# EAGLE library part ADN4663 (library analog-devices)
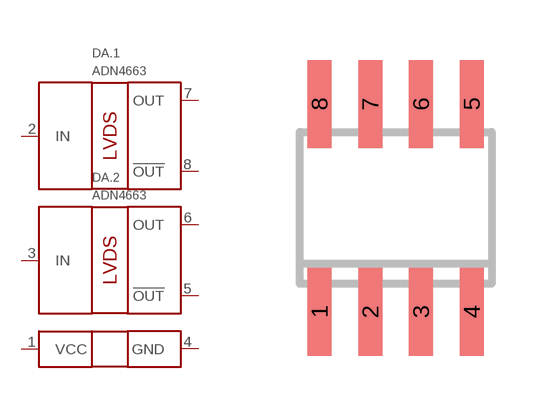
[diagram p3: symbol with the pads of SO08; footprint SO08]

Designator prefix DA; gates .1=ADN4663 .2=ADN4663 G$3=ADN466X_POWER

## ADN4663  [SO08]
1  G$3:VCC  pwr
2  .1:IN  in
3  .2:IN  in
4  G$3:GND  pwr
5  .2:!OUT  out
6  .2:OUT  out
7  .1:OUT  out
8  .1:!OUT  out

## Footprint SO08 (pad centres in mm)
SMALL OUTLINE INTEGRATED CIRCUIT body 3.9 mm/JEDEC MS-012AA
smd 0.6 x 2.2: 1 -1.905,-2.6; 2 -0.635,-2.6; 3 0.635,-2.6; 4 1.905,-2.6; 5 1.905,2.6; 6 0.635,2.6; 7 -0.635,2.6; 8 -1.905,2.6